# Altium schematic symbol library PMEG6010CEH,115.Schlib: 1 symbol
Pins are listed as number, name and electrical type; pins without a type are passive.

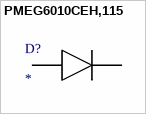
[diagram p0: symbol PMEG6010CEH,115]

## PMEG6010CEH,115
designator D?
Diode Schottky 60 V 1A (DC) Surface Mount SOD-123F
pins: 1 A, 2 C